# EAGLE library part UINS-3.2 (library UINS-3.2)
Miniature calibrated GPS aided Inertial Navigation System
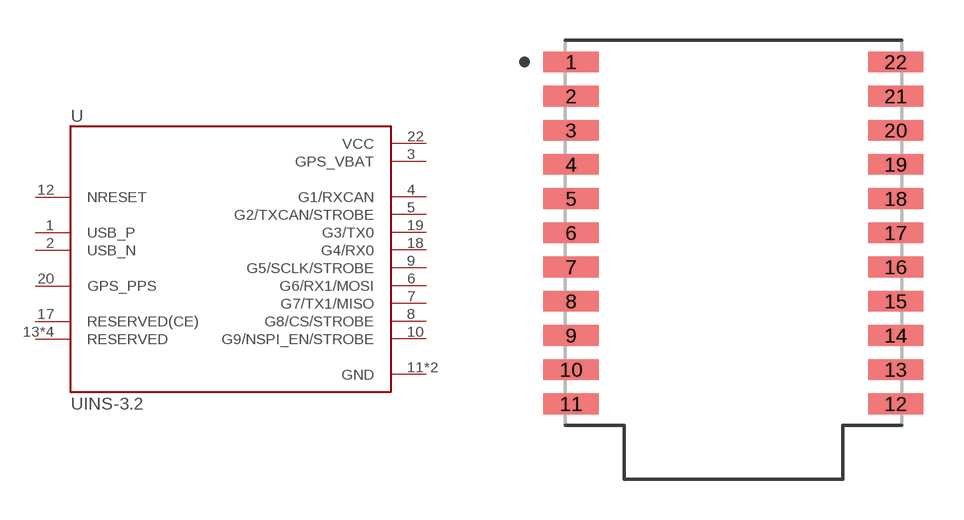
[diagram p0: symbol with the pads of MODULE_UINS-3.2; footprint MODULE_UINS-3.2]

Designator prefix U

## UINS-3.2 (Availability: Unavailable; Description: Miniature calibrated GPS aided Inertial Navigation System; MF: Inertial Sense; MP: UINS-3.2; Package: Package; Price: None)  [MODULE_UINS-3.2]
1  USB_P
2  USB_N
3  GPS_VBAT
4  G1/RXCAN
5  G2/TXCAN/STROBE
6  G6/RX1/MOSI
7  G7/TX1/MISO
8  G8/CS/STROBE
9  G5/SCLK/STROBE
10  G9/NSPI_EN/STROBE
11  GND  pwr
12  NRESET
13  RESERVED
14  RESERVED
15  RESERVED
16  RESERVED
17  RESERVED(CE)
18  G4/RX0
19  G3/TX0
20  GPS_PPS
21  GND  pwr
22  VCC  pwr

## Footprint MODULE_UINS-3.2 (pad centres in mm)
smd 2.05 x 0.77: 1 -6.025,6.35; 2 -6.025,5.08; 3 -6.025,3.81; 4 -6.025,2.54; 5 -6.025,1.27; 6 -6.025,0; 7 -6.025,-1.27; 8 -6.025,-2.54; 9 -6.025,-3.81; 10 -6.025,-5.08; 11 -6.025,-6.35; 12 6.025,-6.35; 13 6.025,-5.08; 14 6.025,-3.81; 15 6.025,-2.54; 16 6.025,-1.27; 17 6.025,0; 18 6.025,1.27; 19 6.025,2.54; 20 6.025,3.81; 21 6.025,5.08; 22 6.025,6.35